# EAGLE library part XF2U-4015-3A (library OMRON_ELECTRONIC_COMPONENTS_By_element14_Batch_1)
CONNECTOR, FPC, 0.5MM, 40WAY
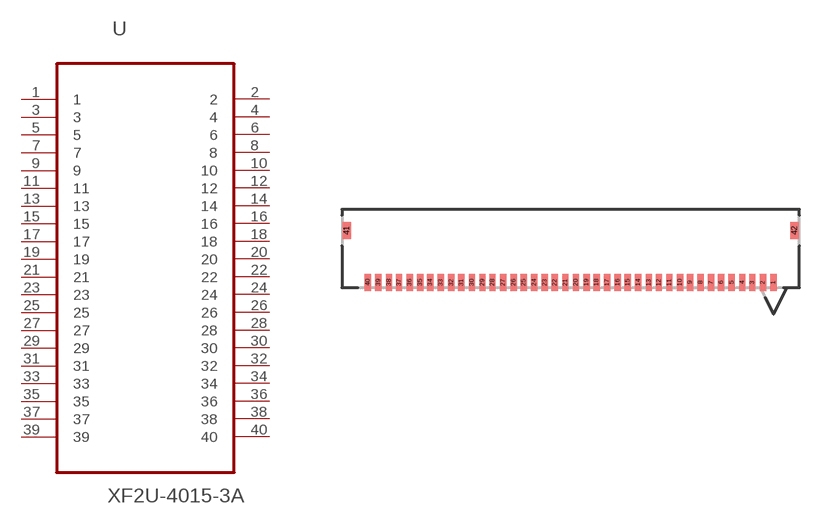
[diagram p10: symbol with the pads of OMRON_XF2U-4015-3A; footprint OMRON_XF2U-4015-3A]

Designator prefix U

## XF2U-4015-3A (MPN: XF2U-4015-3A; OC_FARNELL: 1430947; OC_NEWARK: 88M4904; PACKAGE: CONNECTOR, FPC, 0.5MM, 40WAY; SUPPLIER: OMRON ELECTRONIC COMPONENTS)  [OMRON_XF2U-4015-3A]
1  1  pas
2  2  pas
3  3  pas
4  4  pas
5  5  pas
6  6  pas
7  7  pas
8  8  pas
9  9  pas
10  10  pas
11  11  pas
12  12  pas
13  13  pas
14  14  pas
15  15  pas
16  16  pas
17  17  pas
18  18  pas
19  19  pas
20  20  pas
21  21  pas
22  22  pas
23  23  pas
24  24  pas
25  25  pas
26  26  pas
27  27  pas
28  28  pas
29  29  pas
30  30  pas
31  31  pas
32  32  pas
33  33  pas
34  34  pas
35  35  pas
36  36  pas
37  37  pas
38  38  pas
39  39  pas
40  40  pas

## Footprint OMRON_XF2U-4015-3A (pad centres in mm)
smd 0.305 x 0.813: 1 9.754,1.499; 2 9.246,1.499; 3 8.738,1.499; 4 8.255,1.499; 5 7.747,1.499; 6 7.239,1.499; 7 6.756,1.499; 8 6.248,1.499; 9 5.74,1.499; 10 5.258,1.499; 11 4.75,1.499; 12 4.242,1.499; 13 3.759,1.499; 14 3.251,1.499; 15 2.743,1.499; 16 2.261,1.499; 17 1.753,1.499; 18 1.245,1.499; 19 0.762,1.499; 20 0.254,1.499; 21 -0.254,1.499; 22 -0.762,1.499; 23 -1.245,1.499; 24 -1.753,1.499; 25 -2.261,1.499; 26 -2.743,1.499; 27 -3.251,1.499; 28 -3.759,1.499; 29 -4.242,1.499; 30 -4.75,1.499; 31 -5.258,1.499; 32 -5.74,1.499; 33 -6.248,1.499; 34 -6.756,1.499; 35 -7.239,1.499; 36 -7.747,1.499; 37 -8.255,1.499; 38 -8.738,1.499; 39 -9.246,1.499; 40 -9.754,1.499
smd 0.406 x 0.813: 41 -10.77,3.988; 42 10.77,3.988